# Altium footprint library MICROFIT_4WAY.PcbLib: 1 footprints
Each footprint in its own frame and in the unit in brackets; x right, y up, seen from the top. Pads: shape width x height; smd on the part's side, far side on the other; paste and mask are expansions set on the pad; w line width, h text height; cw(c..) or ccw(c..) is an arc to the next point about the centre after c.
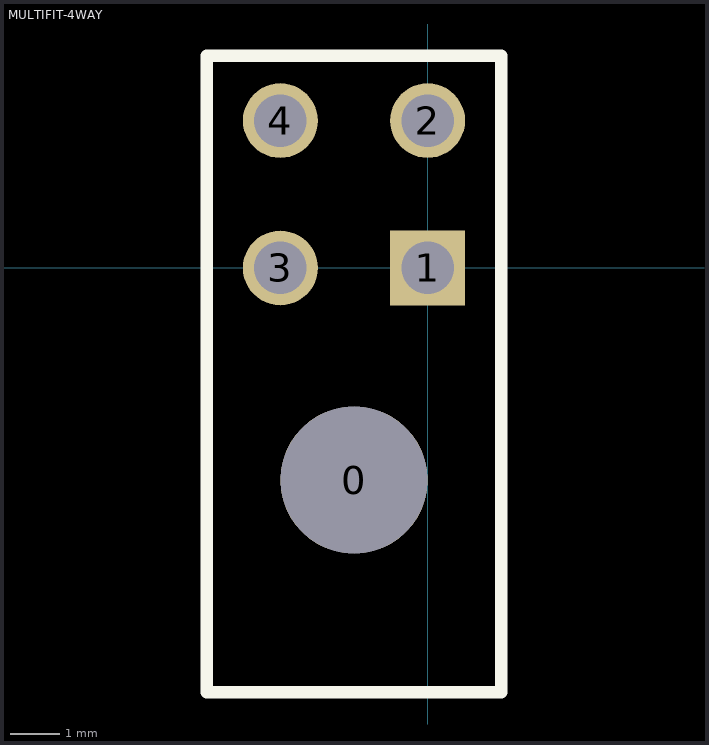
[diagram p0: the footprint, top view; thin cyan lines are the x and y axes]

## MULTIFIT-4WAY [mm]
pads (5):
  round 3 hole 3 unplated: 0(-1.5,-4.32)
  rect 1.524x1.524 hole 1.07: 1(0,0)
  round 1.524 hole 1.07: 2(0,3) 3(-3,0) 4(-3,3)
Top Overlay:
  lines w0.254: -4.5,-8.64 -4.5,4.32 1.5,4.32 1.5,-8.64 -4.5,-8.64